# EAGLE library part TPS5430DDAG4 (library voltageRegulator_switching)
Check availability <https://pricing.snapeda.com/parts/TPS5430DDAG4/Texas%20Instruments/view-part?ref=eda>
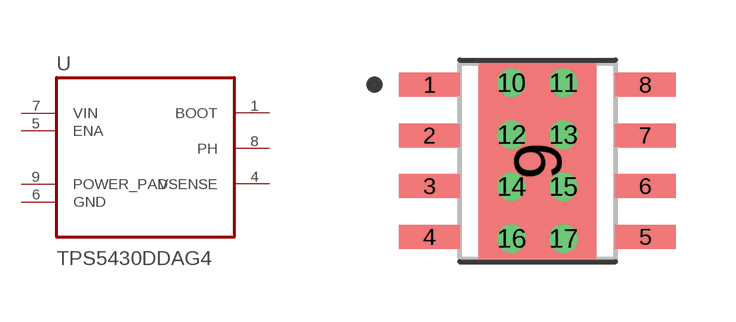
[diagram p1: symbol with the pads of VREG_LM5017MR/NOPB; footprint VREG_LM5017MR/NOPB]

Designator prefix U

## TPS5430DDAG4 (AVAILABILITY: In Stock; CHECK_PRICES: https://www.snapeda.com/parts/TPS5430DDAG4/Texas+Instruments/view-part/?ref=eda; DESCRIPTION: 5.5V to 36V Input, 3A, 500kHz Step-Down Converter 8-SO PowerPAD -40 to 125; MF: Texas Instruments; MP: TPS5430DDAG4; PACKAGE: HSOIC-8 Texas Instruments; PRICE: None; SNAPEDA_LINK: https://www.snapeda.com/parts/TPS5430DDAG4/Texas+Instruments/view-part/?ref=snap)  [VREG_LM5017MR/NOPB]
1  BOOT
4  VSENSE  out
5  ENA  in
6  GND  pwr
7  VIN  in
8  PH  in
9  POWER_PAD

## Footprint VREG_LM5017MR/NOPB (pad centres in mm)
smd 1.55 x 0.6: 1 -2.7,1.905; 2 -2.7,0.635; 3 -2.7,-0.635; 4 -2.7,-1.905; 5 2.7,-1.905; 6 2.7,-0.635; 7 2.7,0.635; 8 2.7,1.905
smd 2.95 x 4.9: 9 0,0
drill 0.2 pad 0.3: 10 -0.65,1.95; 11 0.65,1.95; 12 -0.65,0.65; 13 0.65,0.65; 14 -0.65,-0.65; 15 0.65,-0.65; 16 -0.65,-1.95; 17 0.65,-1.95